# Altium footprint library Drive_GD32F.PcbLib: 36 footprints (part 1 of 3)
Each footprint in its own frame and in the unit in brackets; x right, y up, seen from the top. Pads: shape width x height; smd on the part's side, far side on the other; paste and mask are expansions set on the pad; w line width, h text height; cw(c..) or ccw(c..) is an arc to the next point about the centre after c.
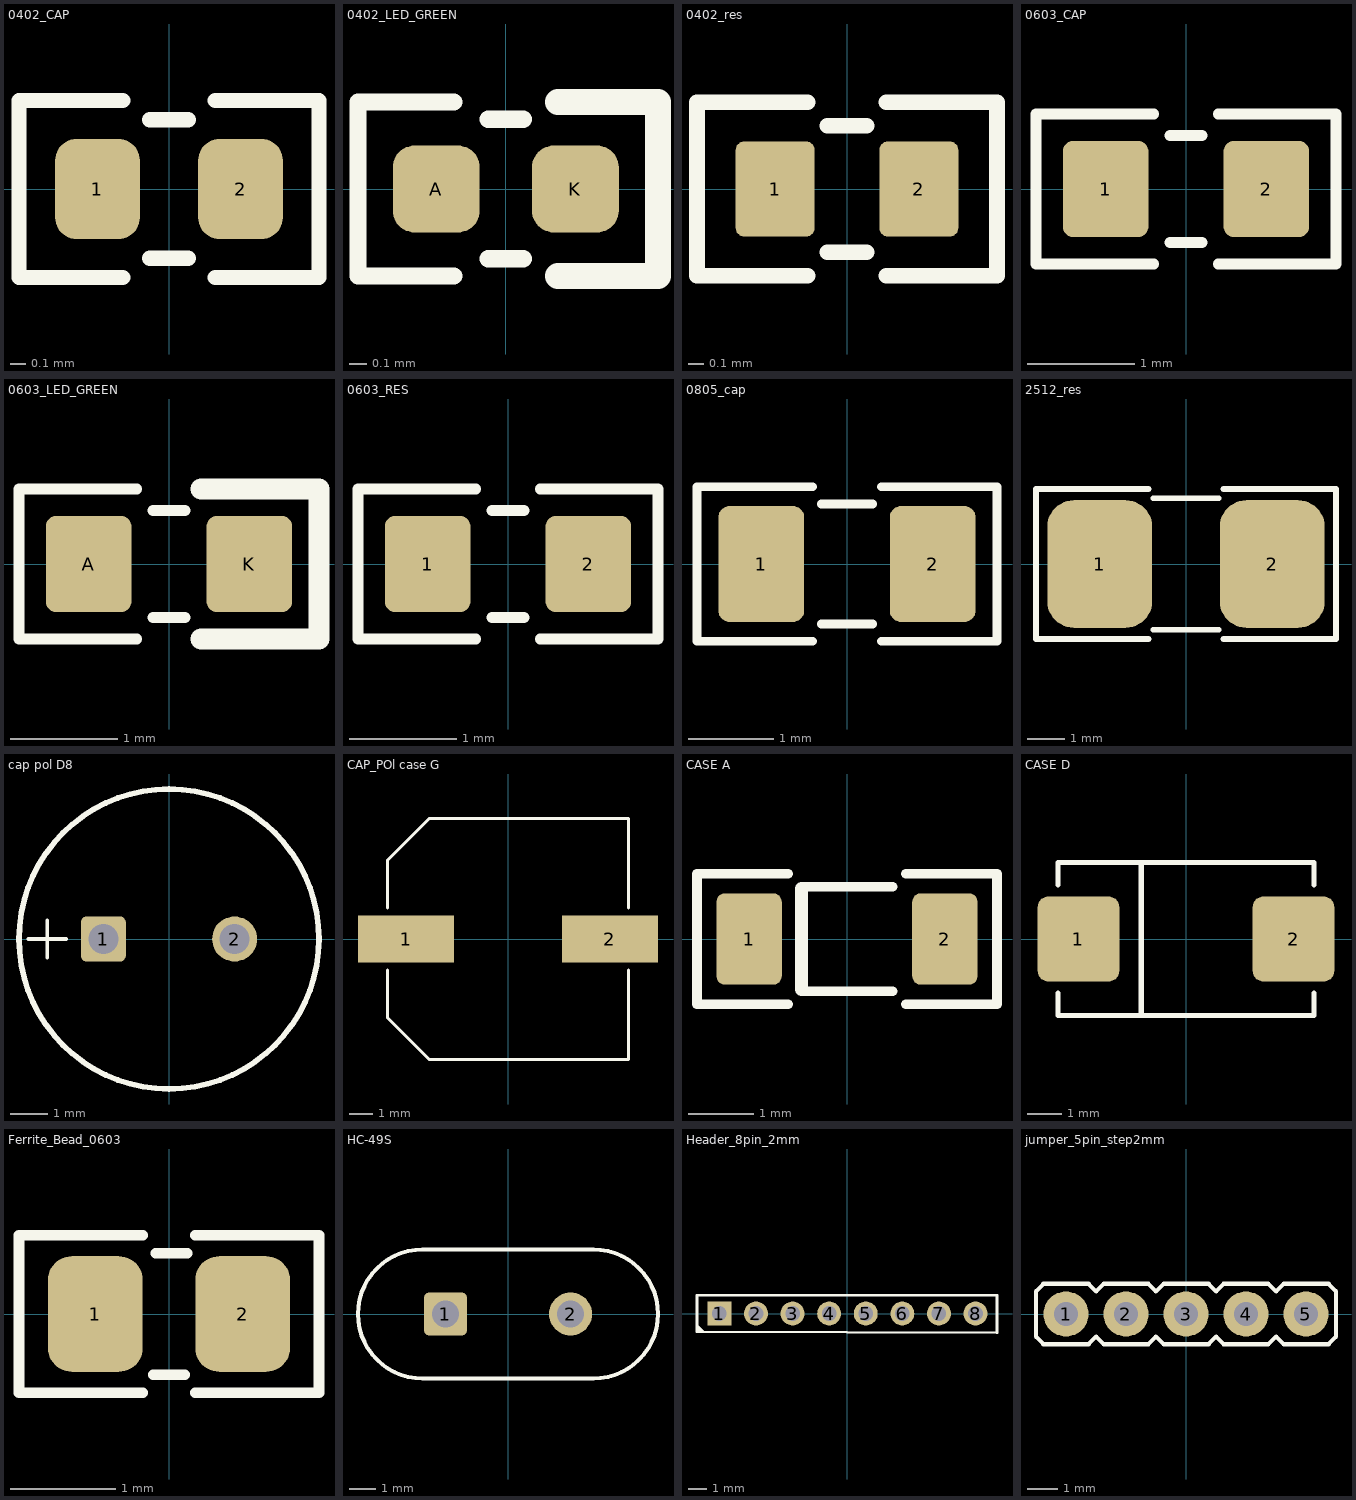
[diagram p0: the footprints below, top view; thin cyan lines are the x and y axes]

## 0402_CAP [mm]
height 0.55
pads (2):
  rrect50% 0.55x0.65 smd: 1(-0.465,0) 2(0.465,0)
Top Overlay:
  lines w0.1: -0.3,-0.575 -0.975,-0.575 -0.975,0.575 -0.3,0.575 ; -0.125,-0.45 0.125,-0.45 ; -0.125,0.45 0.125,0.45 ; 0.3,-0.575 0.975,-0.575 0.975,0.575 0.3,0.575
3D body "CAPC0402 v2.step": height 0.5, standoff 0, extent -0.5,-0.225 0.5,0.275

## 0402_LED_GREEN [mm]
pads (2):
  rrect50% 0.5x0.5 smd: A(-0.4,0) K(0.4,0)
Top Overlay:
  lines w0.1: -0.3,-0.5 -0.85,-0.5 -0.85,0.5 -0.3,0.5 ; -0.1,-0.4 0.1,-0.4 ; -0.1,0.4 0.1,0.4
  lines w0.15: 0.3,-0.5 0.875,-0.5 0.875,0.5 0.3,0.5
3D body "Download_STP_WL-SMCC-0402_rev1.stp": height 0.4, standoff 0, extent -0.5,-0.25 0.5,0.25

## 0402_res [mm]
pads (2):
  rrect20% 0.5x0.6 smd: 1(-0.455,0) 2(0.455,0)
Top Overlay:
  lines w0.1: -0.25,-0.55 -0.95,-0.55 -0.95,0.55 -0.25,0.55 ; -0.125,-0.4 0.125,-0.4 ; -0.125,0.4 0.125,0.4 ; 0.25,-0.55 0.95,-0.55 0.95,0.55 0.25,0.55
3D body "R0402.STEP": height 0.35, standoff 0, extent -0.5,-0.25 0.5,0.25

## 0603_CAP [mm]
height 0.55
pads (2):
  rrect25% 0.8x0.9 smd: 1(-0.75,0) 2(0.75,0)
Top Overlay:
  lines w0.1: -0.3,-0.7 -1.4,-0.7 -1.4,0.7 -0.3,0.7 ; -0.15,-0.5 0.15,-0.5 ; -0.15,0.5 0.15,0.5 ; 0.3,-0.7 1.4,-0.7 1.4,0.7 0.3,0.7
3D body "0603_CAP.step": height 0.8, standoff 0, extent -0.8,-0.4 0.8,0.4

## 0603_LED_GREEN [mm]
pads (2):
  rrect25% 0.8x0.9 smd: A(-0.75,0) K(0.75,0)
Top Overlay:
  lines w0.1: -0.3,-0.7 -1.4,-0.7 -1.4,0.7 -0.3,0.7 ; -0.15,-0.5 0.15,-0.5 ; -0.15,0.5 0.15,0.5
  lines w0.2: 0.3,-0.7 1.4,-0.7 1.4,0.7 0.3,0.7
3D body "User Library-LED_0603_G.STEP": height 0.6, standoff 0, extent -0.8,-0.4 0.8,0.4

## 0603_RES [mm]
height 0.55
pads (2):
  rrect25% 0.8x0.9 smd: 1(-0.75,0) 2(0.75,0)
Top Overlay:
  lines w0.1: -0.3,-0.7 -1.4,-0.7 -1.4,0.7 -0.3,0.7 ; -0.15,-0.5 0.15,-0.5 ; -0.15,0.5 0.15,0.5 ; 0.3,-0.7 1.4,-0.7 1.4,0.7 0.3,0.7
3D body "0603_RES.step": height 0.45, standoff 0, extent -0.8,-0.41 0.8,0.41

## 0805_cap [mm]
pads (2):
  rrect25% 1x1.35 smd: 1(-1,0) 2(1,0)
Top Overlay:
  lines w0.1: -0.4,-0.9 -1.75,-0.9 -1.75,0.9 -0.4,0.9 ; -0.3,-0.7 0.3,-0.7 ; -0.3,0.7 0.3,0.7 ; 0.4,-0.9 1.75,-0.9 1.75,0.9 0.4,0.9
3D body "0805_cap(GRM21).STEP": height 1.45, standoff 0, extent -1,-0.625 1,0.625

## 2512_res [mm]
pads (2):
  rrect50% 2.8x3.4 smd: 1(-2.3,0) 2(2.3,0)
Top Overlay:
  lines w0.15: -1,-2 -4,-2 -4,2 -1,2 ; -0.875,-1.75 0.875,-1.75 ; -0.875,1.75 0.875,1.75 ; 1,-2 4,-2 4,2 1,2
3D body "RES2512.stp": height 0.55, standoff 0, extent -3.15,-1.55 3.15,1.55

## cap pol D8 [mm]
pads (2):
  rrect25% 1.2x1.2 hole 0.8: 1(-1.75,0)
  round 1.2 hole 0.8: 2(1.75,0)
Top Overlay:
  circle w0.15: c0,0 r4
  lines w0.1: -3.75,0 -2.75,0 ; -3.25,-0.5 -3.25,0.5
3D body "RADIAL-2.STEP": height 11.5, standoff -17, extent -4,-4 4,4

## CAP_POl case G [mm]
pads (2):
  rect 4.1x2 smd: 1(-4.35,0) 2(4.35,0)
Top Overlay:
  lines w0.127: -5.15,-1.32 -5.15,-3.35 -3.35,-5.15 5.15,-5.15 5.15,-1.32 ; -5.15,1.32 -5.15,3.35 -3.35,5.15 5.15,5.15 5.15,1.32
3D body "step_temp.STEP": height 9.3, standoff -0.9, extent -5.85,-5.15 5.85,5.15

## CASE A [mm]
pads (2):
  rrect25% 1x1.4 smd: 1(-1.5,0) 2(1.5,0)
Top Overlay:
  lines w0.15: -0.9,-1 -2.3,-1 -2.3,1 -0.9,1 ; -0.7,-0.8 0.7,-0.8 ; -0.7,0.8 0.7,0.8 ; 0.9,-1 2.3,-1 2.3,1 0.9,1
  lines w0.2: -0.7,-0.775 -0.7,0.775
3D body "Tantalum SMD Capacitor _1.stp": height 1.6, standoff 0, extent -1.6,-0.8 1.6,0.8

## CASE D [mm]
pads (2):
  rrect25% 2.37x2.47 smd: 1(-3.125,0) 2(3.125,0)
Top Overlay:
  lines w0.15: -3.725,-1.575 -3.725,-2.225 3.725,-2.225 3.725,-1.575 ; -3.725,1.575 -3.725,2.225 3.725,2.225 3.725,1.575 ; -1.3,-2.225 -1.3,2.225
3D body "CASE D.STEP": height 3.1, standoff 0, extent -3.65,-2.15 3.65,2.15

## Ferrite_Bead_0603 [mm]
pads (2):
  rrect50% 0.9x1.1 smd: 1(-0.7,0) 2(0.7,0)
Top Overlay:
  lines w0.1: -0.25,-0.75 -1.425,-0.75 -1.425,0.75 -0.25,0.75 ; -0.15,-0.575 0.15,-0.575 ; -0.125,0.575 0.175,0.575 ; 0.25,-0.75 1.425,-0.75 1.425,0.75 0.25,0.75
3D body "BLM18EG221SN1D.STEP": height 0.8, standoff 0, extent -0.775,-0.475 0.825,0.475

## HC-49S [mm]
pads (2):
  rrect25% 1.6x1.6 hole 1: 1(-2.325,0)
  round 1.6 hole 1: 2(2.325,0)
Top Overlay:
  lines w0.15: -5.575,0 ccw(c-3.175,0) -3.175,-2.4 3.175,-2.4 ccw(c3.175,0) 5.575,0 ccw(c3.175,0) 3.175,2.4 -3.175,2.4 ccw(c-3.175,0) -5.575,0
3D body "HC49-S.stp": height 4.2, standoff -15, extent -5.5,-2.325 5.5,2.325

## Header_8pin_2mm [mm]
pads (8):
  rect 1.308x1.308 / inner round 1.308 / far side rect 1.308x1.308 hole 0.8: 1(-7,0)
  round 1.308 hole 0.8: 2(-5,0) 3(-3,0) 4(-1,0) 5(1,0) 6(3,0) 7(5,0) 8(7,0)
Top Overlay:
  region: -8.187,-1.013 -8.187,-0.613 -7.812,-0.988
  lines w0.15: -8.225,-0.999 -8.225,1 8.175,1 8.175,-1.051 -8.225,-0.999
3D body "MTMM-108-02-T-S-196.stp": height 6.48, standoff 0, extent -8,-0.999 8,0.999

## jumper_5pin_step2mm [mm]
pads (5):
  round 1.5 hole 0.8: 1(-4,0) 2(-2,0) 3(0,0) 4(2,0) 5(4,0)
Top Overlay:
  lines w0.15: -3.25,-1 -4.75,-1 -5,-0.75 -5,0.75 -4.75,1 -3.25,1 -3,0.75 -2.75,1 -1.25,1 -1,0.75 -0.75,1 0.75,1 1,0.75 1.25,1 2.75,1 3,0.75 3.25,1 4.75,1 5,0.75 5,-0.75 4.75,-1 3.25,-1 3,-0.75 2.75,-1 1.25,-1 1,-0.75 0.75,-1 -0.75,-1 -1,-0.75 -1.25,-1 -2.75,-1 -3,-0.75 ; -3.25,-1 -3,-0.75 ; -3.25,-1 -3,-0.75
3D body "MTMM-105-02-G-S-050.stp": height 5.21, standoff -1.27, extent -5,-0.999 5,0.999